# Altium footprint library 936.PcbLib: 1 footprints
Each footprint in its own frame and in the unit in brackets; x right, y up, seen from the top. Pads: shape width x height; smd on the part's side, far side on the other; paste and mask are expansions set on the pad; w line width, h text height; cw(c..) or ccw(c..) is an arc to the next point about the centre after c.
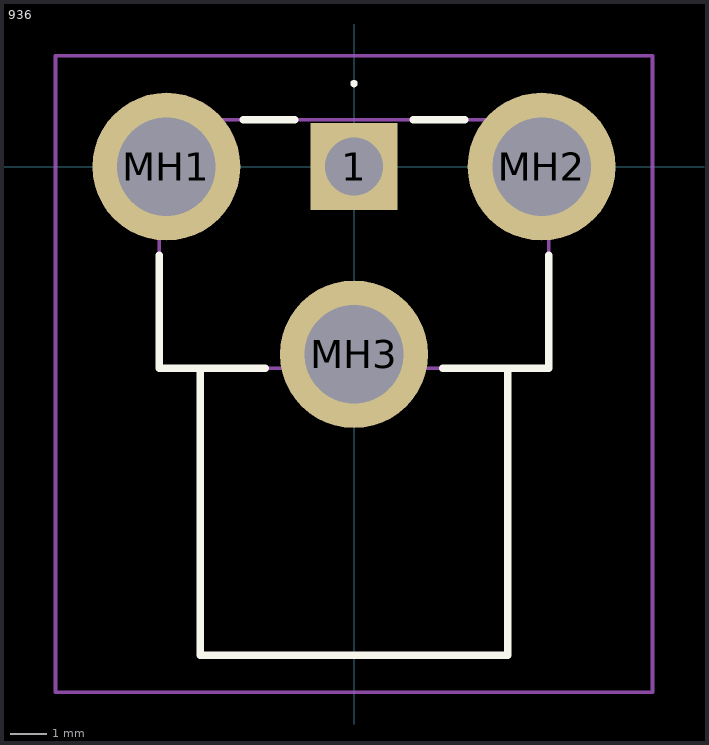
[diagram p0: the footprint, top view; thin cyan lines are the x and y axes]

## 936 [mm]
pads (4):
  rect 2.355x2.355 hole 1.57: 1(0,0)
  round 4.005 hole 2.67: MH1(-5.08,0) MH2(5.08,0) MH3(0,-5.08)
Top Overlay:
  lines w0.1: 0,2.2 0,2.2 ; 0,2.2 ccw(c0,2.25) 0,2.3 ; 0,2.2 cw(c0,2.25) 0,2.3 ; 0,2.3 0,2.3
  lines w0.2: -5.27,-2.4 -5.27,-5.46 -2.4,-5.46 ; -4.165,-5.46 -4.165,-13.23 4.165,-13.23 4.165,-5.46 ; -3,1.27 -1.6,1.27 ; 1.6,1.27 3,1.27 ; 2.4,-5.46 5.27,-5.46 5.27,-2.4
Mechanical 15:
  lines w0.1: -4.165,-5.46 -4.165,-13.23 4.165,-13.23 4.165,-5.46 ; -5.27,-5.46 5.27,-5.46 5.27,1.27 -5.27,1.27 -5.27,-5.46
Mechanical 20:
  lines w0.1: -8.082,-14.23 8.082,-14.23 8.082,3.002 -8.082,3.002 -8.082,-14.23